# Altium integrated library BTH2032_Battery Holder.IntLib: 1 symbol
Pins are listed as number, name and electrical type; pins without a type are passive.

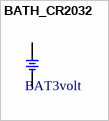
[diagram p0: symbol BATH_CR2032]

## BATH_CR2032
designator BT?, comment BAT3volt
BATTERY HOLDER, CR2032; VALUE: BAT3volt; MANF_P#: -; .: http://www.chila.ir
footprint BTH2032 (CR2032 BATTERY HOLDER)
pins: 1, 2